# Altium footprint library JMPKG.PcbLib: 337 footprints (part 17 of 22)
Each footprint in its own frame and in the unit in brackets; x right, y up, seen from the top. Pads: shape width x height; smd on the part's side, far side on the other; paste and mask are expansions set on the pad; w line width, h text height; cw(c..) or ccw(c..) is an arc to the next point about the centre after c.
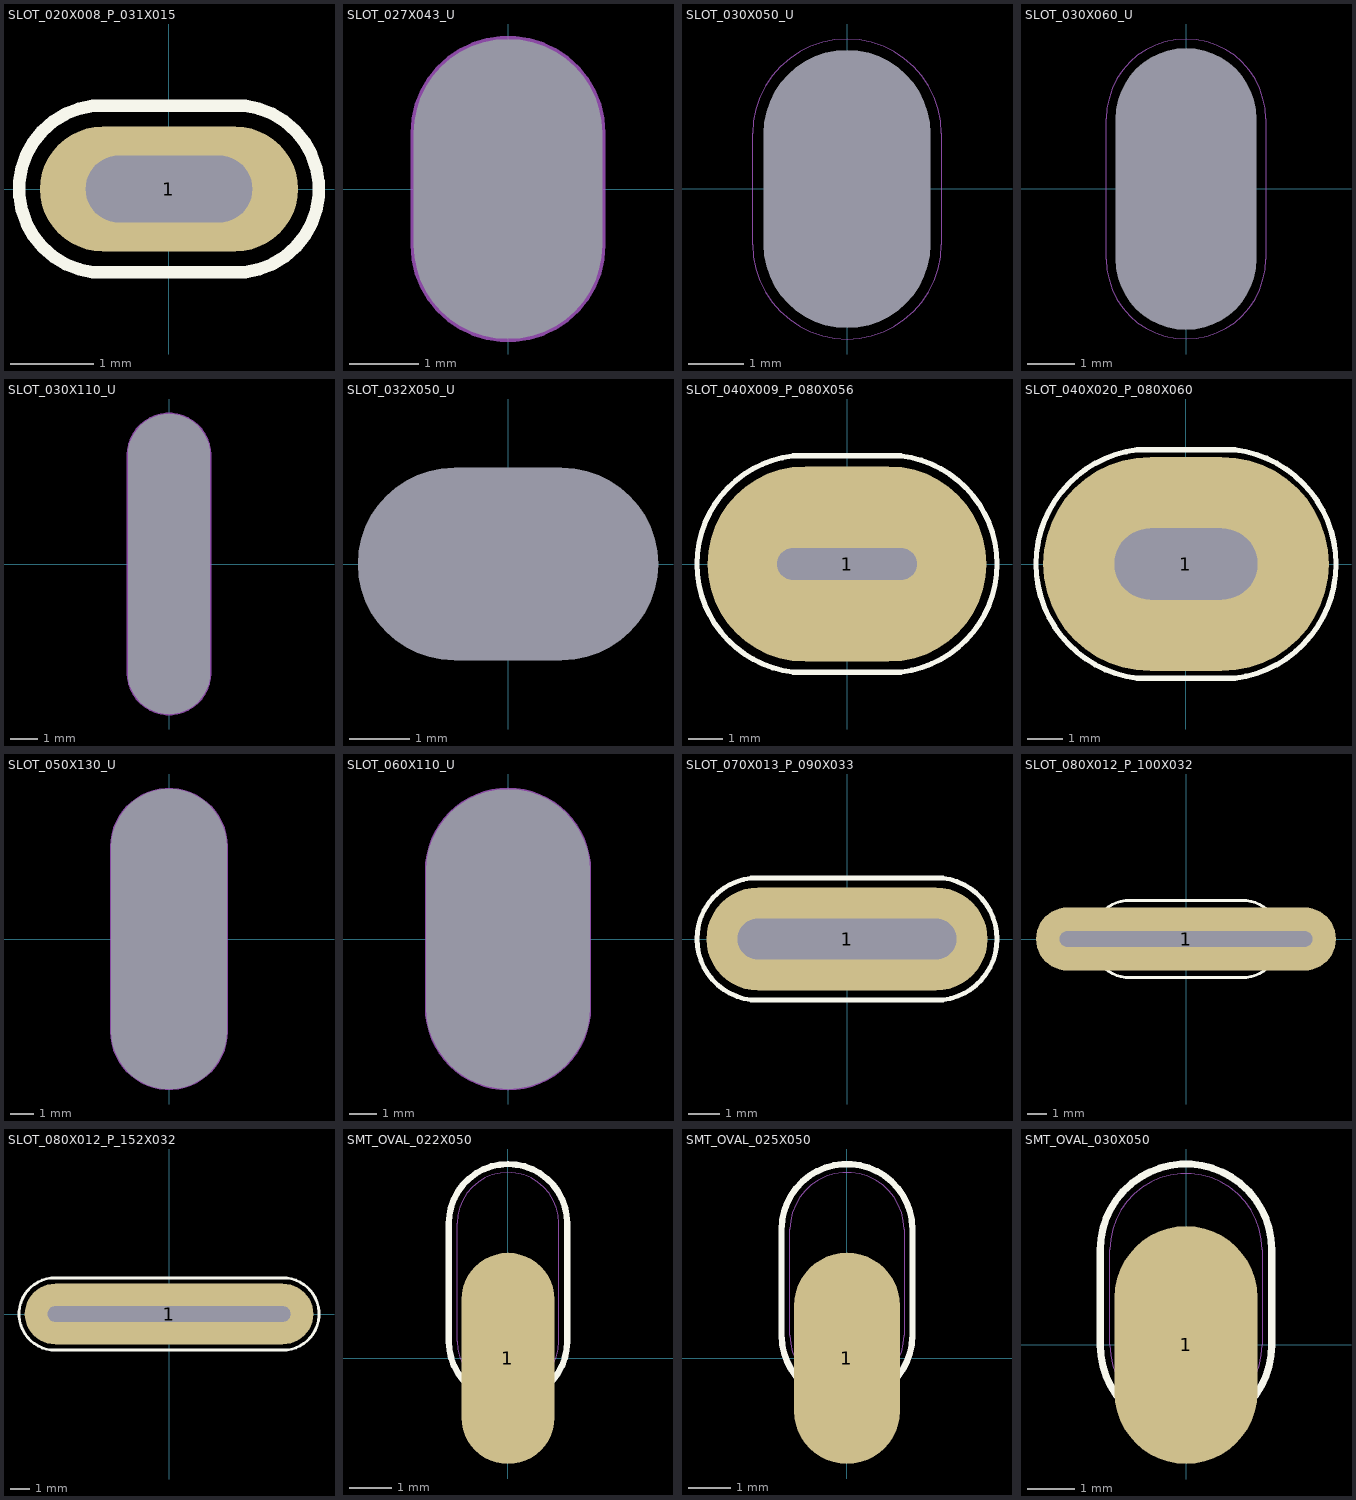
[diagram p16: the footprints below, top view; thin cyan lines are the x and y axes]

## SLOT_020X008_P_031X015 [mm]
pads (1):
  oval 3.1x1.5 hole 0.8 slot 2 at 0 deg mask+0.05: 1(0,0)
Top Overlay:
  lines w0.15: -0.914,1 ccw(c-0.793,0) -0.912,-1 ; -0.913,-1 0.913,-1 ; -0.913,1 0.913,1 ; 0.912,1 cw(c0.793,0) 0.914,-1
Mechanical 15:
  lines w0.01: -0.6,-0.4 0.6,-0.4 ccw(c0.6,0) 0.6,0.4 -0.6,0.4 ccw(c-0.6,0) -0.6,-0.4
Mechanical 16:
  lines w0.01: -0.6,-0.4 0.6,-0.4 ccw(c0.6,0) 0.6,0.4 -0.6,0.4 ccw(c-0.6,0) -0.6,-0.4
Multi-Layer:
  text "Value" at -0.988,-0.725 h0.6
Mechanical 20:
  lines w0.01: -0.914,-1 0.914,-1 ccw(c0.794,0) 0.913,1 ; -0.913,-1 cw(c-0.794,0) -0.915,1 0.914,1

## SLOT_027X043_U [mm]
pads (1):
  rrect100% 0x0 hole 2.7 slot 4.3 at 90 deg unplated: 1(0,0)
Mechanical 15:
  lines w0.1: -1.35,-0.8 ccw(c0,-0.8) 1.35,-0.8 1.35,0.8 ccw(c0,0.8) -1.35,0.8 -1.35,-0.8

## SLOT_030X050_U [mm]
pads (1):
  rrect100% 0x0 hole 3 slot 5 at 90 deg unplated: 1(0,0)
Drill Drawing:
  lines w0.01: -1.5,-1 ccw(c0,-1) 1.5,-1 1.5,1 ccw(c0,1) -1.5,1 -1.5,-1
Mechanical 20:
  lines w0.01: -1.7,-1 ccw(c0,-1) 1.7,-1 1.7,1 ccw(c0,1) -1.7,1 -1.7,-1

## SLOT_030X060_U [mm]
pads (1):
  rrect100% 0x0 hole 3 slot 6 at 90 deg unplated: 1(0,0)
Drill Drawing:
  lines w0.01: -1.5,-1.5 ccw(c0,-1.5) 1.5,-1.5 1.5,1.5 ccw(c0,1.5) -1.5,1.5 -1.5,-1.5
Mechanical 20:
  lines w0.01: -1.7,-1.5 ccw(c0,-1.5) 1.7,-1.5 1.7,1.5 ccw(c0,1.5) -1.7,1.5 -1.7,-1.5

## SLOT_030X110_U [mm]
pads (1):
  rrect100% 0x0 hole 3 slot 11 at 90 deg unplated: 1(0,0)
Mechanical 15:
  lines w0.1: -1.5,-4 ccw(c0,-4) 1.5,-4 1.5,4 ccw(c0,4) -1.5,4 -1.5,-4
Multi-Layer:
  text "Value" at -1.235,-1.125 h0.75

## SLOT_032X050_U [mm]
pads (1):
  rrect100% 0x0 / inner round 0 / far side round 0 hole 3.2 slot 5 at 0 deg unplated: 1(0,0)
Drill Drawing:
  lines w0.01: -1,-1.6 cw(c-0.897,0) -1,1.6 ; -1,-1.6 1,-1.6 ; -1,1.6 1,1.6 ; 1,-1.6 ccw(c0.897,0) 1,1.6

## SLOT_040X009_P_080X056 [mm]
pads (1):
  oval 8x5.6 hole 0.9 slot 4 at 0 deg mask+0.05: 1(0,0)
Top Overlay:
  lines w0.15: -1.553,3.1 ccw(c-1.178,0) -1.547,-3.1 ; -1.55,-3.1 1.55,-3.1 ; -1.55,3.1 1.55,3.1 ; 1.547,3.1 cw(c1.178,0) 1.553,-3.1
Mechanical 15:
  lines w0.01: -1.55,-0.45 1.55,-0.45 ccw(c1.55,0) 1.55,0.45 -1.55,0.45 ccw(c-1.55,0) -1.55,-0.45
Mechanical 16:
  lines w0.01: -1.55,-0.45 1.55,-0.45 ccw(c1.55,0) 1.55,0.45 -1.55,0.45 ccw(c-1.55,0) -1.55,-0.45
Multi-Layer:
  text "Value" at -1.185,-1.375 h0.75
  text "Value" at -1.185,-1.23 h0.75
Mechanical 20:
  lines w0.01: -1.553,3.1 ccw(c-1.178,0) -1.547,-3.1 ; -1.55,-3.1 1.55,-3.1 ; -1.55,3.1 1.55,3.1 ; 1.547,3.1 cw(c1.178,0) 1.553,-3.1

## SLOT_040X020_P_080X060 [mm]
pads (1):
  oval 8x6 hole 2 slot 4 at 0 deg mask+0.05: 1(0,0)
Top Overlay:
  lines w0.15: -1.364,3.2 ccw(c-0.977,0) -1.359,-3.2 ; -1.361,-3.2 1.361,-3.2 ; -1.361,3.2 1.361,3.2 ; 1.359,3.2 cw(c0.977,0) 1.364,-3.2
Mechanical 15:
  lines w0.01: -1,-1 1,-1 ccw(c1,0) 1,1 -1,1 ccw(c-1,0) -1,-1
Mechanical 16:
  lines w0.01: -1,-1 1,-1 ccw(c1,0) 1,1 -1,1 ccw(c-1,0) -1,-1
Multi-Layer:
  text "Value" at -1.185,-1.375 h0.75
Mechanical 20:
  lines w0.01: -1.364,3.2 ccw(c-0.977,0) -1.359,-3.2 ; -1.361,-3.2 1.361,-3.2 ; -1.361,3.2 1.361,3.2 ; 1.359,3.2 cw(c0.977,0) 1.364,-3.2

## SLOT_050X130_U [mm]
pads (1):
  rrect100% 0x0 hole 5 slot 13 at 90 deg unplated: 1(0,0)
Mechanical 15:
  lines w0.1: -2.5,-4 ccw(c0,-4) 2.5,-4 2.5,4 ccw(c0,4) -2.5,4 -2.5,-4
Mechanical 16:
  lines w0.1: -2.5,-4 ccw(c0,-4) 2.5,-4 2.5,4 ccw(c0,4) -2.5,4 -2.5,-4

## SLOT_060X110_U [mm]
pads (1):
  rrect100% 0x0 hole 6 slot 11 at 90 deg unplated: 1(0,0)
Mechanical 15:
  lines w0.1: -3,-2.5 ccw(c0,-2.5) 3,-2.5 3,2.5 ccw(c0,2.5) -3,2.5 -3,-2.5
Mechanical 16:
  lines w0.1: -3,-2.5 ccw(c0,-2.5) 3,-2.5 3,2.5 ccw(c0,2.5) -3,2.5 -3,-2.5

## SLOT_070X013_P_090X033 [mm]
pads (1):
  oval 9x3.3 hole 1.3 slot 7 at 0 deg mask+0.05: 1(0,0)
Top Overlay:
  lines w0.15: -3.074,1.95 ccw(c-2.839,0) -3.071,-1.95 ; -3.073,-1.95 3.07,-1.95 ; -3.073,1.95 3.07,1.95 ; 3.069,1.95 cw(c2.836,0) 3.072,-1.95
Mechanical 15:
  lines w0.01: -2.85,-0.65 2.85,-0.65 ccw(c2.85,0) 2.85,0.65 -2.85,0.65 ccw(c-2.85,0) -2.85,-0.65
Mechanical 16:
  lines w0.01: -2.85,-0.65 2.85,-0.65 ccw(c2.85,0) 2.85,0.65 -2.85,0.65 ccw(c-2.85,0) -2.85,-0.65
Multi-Layer:
  text "Value" at -1.185,-1.375 h0.75
Mechanical 20:
  lines w0.01: -3.073,1.95 ccw(c-2.837,0) -3.069,-1.95 ; -3.071,-1.95 3.071,-1.95 ; -3.071,1.95 3.071,1.95 ; 3.069,1.95 cw(c2.837,0) 3.073,-1.95

## SLOT_080X012_P_100X032 [mm]
pads (1):
  oval 15.2x3.2 hole 0.8 slot 12.8 at 0 deg mask+0.05: 1(0,0)
Top Overlay:
  lines w0.15: -3.074,1.95 ccw(c-2.839,0) -3.071,-1.95 ; -3.073,-1.95 3.07,-1.95 ; -3.073,1.95 3.07,1.95 ; 3.069,1.95 cw(c2.836,0) 3.072,-1.95
Mechanical 15:
  lines w0.01: -2.85,-0.65 2.85,-0.65 ccw(c2.85,0) 2.85,0.65 -2.85,0.65 ccw(c-2.85,0) -2.85,-0.65
Mechanical 16:
  lines w0.01: -2.85,-0.65 2.85,-0.65 ccw(c2.85,0) 2.85,0.65 -2.85,0.65 ccw(c-2.85,0) -2.85,-0.65
Multi-Layer:
  text "Value" at -1.185,-1.375 h0.75
Mechanical 20:
  lines w0.01: -3.073,1.95 ccw(c-2.837,0) -3.069,-1.95 ; -3.071,-1.95 3.071,-1.95 ; -3.071,1.95 3.071,1.95 ; 3.069,1.95 cw(c2.837,0) 3.073,-1.95

## SLOT_080X012_P_152X032 [mm]
pads (1):
  oval 15.2x3.2 hole 0.8 slot 12.8 at 0 deg mask+0.05: 1(0,0)
Top Overlay:
  lines w0.15: -6.216,1.9 ccw(c-5.986,0) -6.213,-1.9 ; -6.215,-1.9 6.215,-1.9 ; -6.215,1.9 6.215,1.9 ; 6.213,1.9 cw(c5.986,0) 6.216,-1.9
Mechanical 15:
  lines w0.01: -6,-0.4 6,-0.4 ccw(c6,0) 6,0.4 -6,0.4 ccw(c-6,0) -6,-0.4
Mechanical 16:
  lines w0.01: -6,-0.4 6,-0.4 ccw(c6,0) 6,0.4 -6,0.4 ccw(c-6,0) -6,-0.4
Multi-Layer:
  text "Value" at -1.185,-1.375 h0.75
  text "Value" at -1.185,-1.23 h0.75
Mechanical 20:
  lines w0.01: -6.219,1.9 ccw(c-5.989,0) -6.216,-1.9 ; -6.217,-1.9 6.215,-1.9 ; -6.217,1.9 6.215,1.9 ; 6.213,1.9 cw(c5.986,0) 6.216,-1.9

## SMT_OVAL_022X050 [mm]
pads (1):
  oval 2.2x5 smd mask-0.75: 1(0,0)
Top Overlay:
  lines w0.15: -1.4,0.4 ccw(c0,0.4) 1.4,0.4 1.4,3.2 ccw(c0,3.2) -1.4,3.2 -1.4,0.4
Mechanical 15:
  lines w0.01: -1.2,0.4 ccw(c0,0.4) 1.2,0.4 1.2,3.2 ccw(c0,3.2) -1.2,3.2 -1.2,0.4
Multi-Layer:
  text "Value" at -0.913,1.856 h0.6
Mechanical 20:
  lines w0.01: -1.4,0.4 ccw(c0,0.4) 1.4,0.4 1.4,3.2 ccw(c0,3.2) -1.4,3.2 -1.4,0.4

## SMT_OVAL_025X050 [mm]
pads (1):
  oval 2.5x5 smd mask-0.75: 1(0,0)
Top Overlay:
  lines w0.15: -1.55,0.55 -1.55,3.05 cw(c0,3.05) 1.55,3.05 1.55,0.55 cw(c0,0.55) -1.55,0.55
Mechanical 15:
  lines w0.01: -1.35,0.55 -1.35,3.05 cw(c0,3.05) 1.35,3.05 1.35,0.55 cw(c0,0.55) -1.35,0.55
Multi-Layer:
  text "Value" at -0.913,1.856 h0.6
  text "Value" at -0.983,0.326 h0.6
Mechanical 20:
  lines w0.01: -1.55,0.55 -1.55,3.05 cw(c0,3.05) 1.55,3.05 1.55,0.55 cw(c0,0.55) -1.55,0.55

## SMT_OVAL_030X050 [mm]
pads (1):
  oval 3x5 smd mask-0.75: 1(0,0)
Top Overlay:
  lines w0.15: -1.8,0 -1.8,2 cw(c0,2) 1.8,2 1.8,0 cw(c0,0) -1.8,0
Mechanical 15:
  lines w0.01: -1.6,0 -1.6,2 cw(c0,2) 1.6,2 1.6,0 cw(c0,0) -1.6,0
Multi-Layer:
  text "Value" at -0.913,1.856 h0.6
  text "Value" at -0.983,0.326 h0.6
Mechanical 20:
  lines w0.01: -1.8,0 -1.8,2 cw(c0,2) 1.8,2 1.8,0 cw(c0,0) -1.8,0